# EAGLE library part IC_HT9170 (library psas)
DTMF Reciver
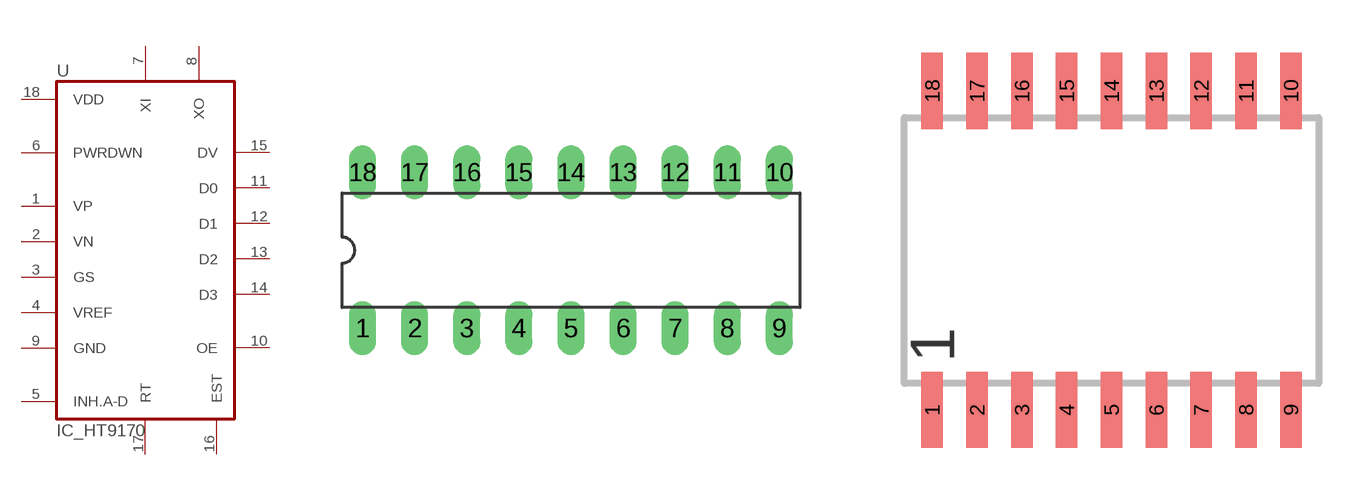
[diagram p19: symbol with the pads of DIL18; footprints DIL18, SOP.3_18]

Designator prefix U

## IC_HT9170B  [DIL18]
1  VP
2  VN
3  GS
4  VREF
5  INH.A-D
6  PWRDWN
7  XI  pas
8  XO  pas
9  GND  pwr
10  OE
11  D0
12  D1
13  D2
14  D3
15  DV
16  EST  pas
17  RT  pas
18  VDD  pas

## IC_HT9170D  [SOP.3_18]
Pads as for DIL18

## Footprint DIL18 (pad centres in mm)
drill 0.813 long: 1 -10.16,-3.81; 2 -7.62,-3.81; 3 -5.08,-3.81; 4 -2.54,-3.81; 5 0,-3.81; 6 2.54,-3.81; 7 5.08,-3.81; 8 7.62,-3.81; 9 10.16,-3.81; 10 10.16,3.81; 11 7.62,3.81; 12 5.08,3.81; 13 2.54,3.81; 14 0,3.81; 15 -2.54,3.81; 16 -5.08,3.81; 17 -7.62,3.81; 18 -10.16,3.81

## Footprint SOP.3_18 (pad centres in mm)
smd 0.61 x 2.159: 1 -5.08,-4.521; 2 -3.81,-4.521; 3 -2.54,-4.521; 4 -1.27,-4.521; 5 0,-4.521; 6 1.27,-4.521; 7 2.54,-4.521; 8 3.81,-4.521; 9 5.08,-4.521; 10 5.08,4.521; 11 3.81,4.521; 12 2.54,4.521; 13 1.27,4.521; 14 0,4.521; 15 -1.27,4.521; 16 -2.54,4.521; 17 -3.81,4.521; 18 -5.08,4.521